# Altium schematic symbol library OPTO_RELAY.SchLib: 1 symbol
Pins are listed as number, name and electrical type; pins without a type are passive.

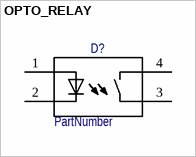
[diagram p0: symbol OPTO_RELAY]

## OPTO_RELAY
designator D?  (value not drawn)
Оптопара; PartNumber: PartNumber
pins: 1 A, 2 C, 3 Out1, 4 Out2